# EAGLE library part SN65HVD11HD (library SN65HVD11HD)
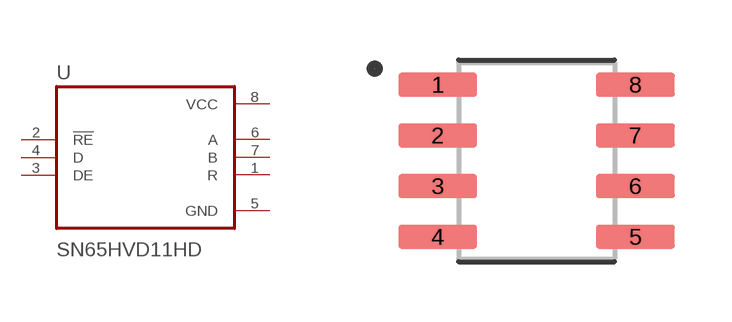
[diagram p0: symbol with the pads of SOIC127P599X175-8N; footprint SOIC127P599X175-8N]

Designator prefix U

## SN65HVD11HD (Description: High Temperature 3.3-V RS-485 Transceiver 8-SOIC -55 to 175; Digi-Key_Part_Number: 296-28286-5-ND; MF: Texas Instruments; MP: SN65HVD11HD; Package: SOIC-8 Texas Instruments; Purchase-URL: https://pricing.snapeda.com/search/part/SN65HVD11HD/?ref=eda)  [SOIC127P599X175-8N]
1  R  out
2  !RE  in
3  DE  in
4  D  in
5  GND  pwr
6  A  out
7  B  out
8  VCC  pwr

## Footprint SOIC127P599X175-8N (pad centres in mm)
smd 1.97 x 0.6: 1 -2.47,1.905; 2 -2.47,0.635; 3 -2.47,-0.635; 4 -2.47,-1.905; 5 2.47,-1.905; 6 2.47,-0.635; 7 2.47,0.635; 8 2.47,1.905